# Altium schematic symbol library XTAL.SchLib: 2 symbols
Pins are listed as number, name and electrical type; pins without a type are passive.

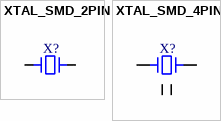
[diagram p0: symbols XTAL_SMD_2PIN to XTAL_SMD_4PIN]

## XTAL_SMD_2PIN
designator X?, comment XTAL  (value not drawn)
Crystal SMD 2 pin; Distributor Link: *
footprint XTAL_3215-2
pins: 1, 2

## XTAL_SMD_4PIN
designator X?, comment XTAL_2016  (value not drawn)
Crystal SMD 4-Pin 2.0x1.6mm; Value: N/A; Supplier: N/A; Supplier Part Number: N/A; Supplier URL: N/A
footprint XTAL_2016
footprint XTAL_3225
pins: 1, 2, 3, 4